# EAGLE library part MM74HC259N (library Fairchild_By_element14_Batch_1)
8-Bit Addressable Latch/3-to-8 Line Decoder
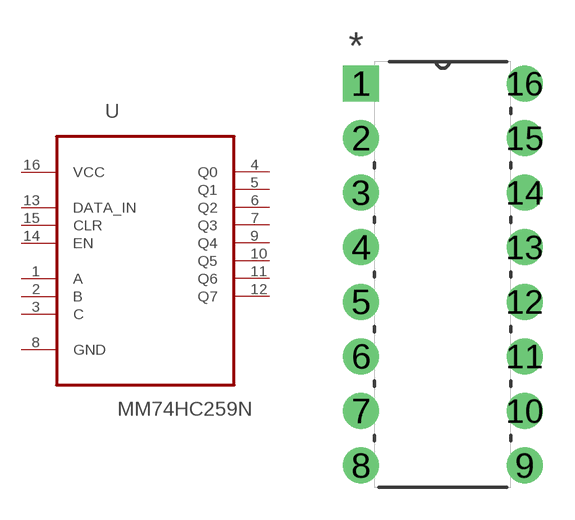
[diagram p270: symbol with the pads of DIP254P762X508-16; footprint DIP254P762X508-16]

Designator prefix U

## MM74HC259N (MPN: MM74HC259N; OC_FARNELL: 1013936; OC_NEWARK: 18C7638; PACKAGE: PDIP-16; SUPPLIER: Fairchild)  [DIP254P762X508-16]
1  A  in
2  B  in
3  C  in
4  Q0  out
5  Q1  out
6  Q2  out
7  Q3  out
8  GND  pas
9  Q4  out
10  Q5  out
11  Q6  out
12  Q7  out
13  DATA_IN  in
14  EN  in
15  CLR  in
16  VCC  pwr

## Footprint DIP254P762X508-16 (pad centres in mm)
drill 1.118 square: 1 -7.62,17.78
drill 1.118: 2 -7.62,15.24; 3 -7.62,12.7; 4 -7.62,10.16; 5 -7.62,7.62; 6 -7.62,5.08; 7 -7.62,2.54; 8 -7.62,0; 9 0,0; 10 0,2.54; 11 0,5.08; 12 0,7.62; 13 0,10.16; 14 0,12.7; 15 0,15.24; 16 0,17.78